# Altium footprint library Active.PcbLib: 31 footprints (part 1 of 2)
Each footprint in its own frame and in the unit in brackets; x right, y up, seen from the top. Pads: shape width x height; smd on the part's side, far side on the other; paste and mask are expansions set on the pad; w line width, h text height; cw(c..) or ccw(c..) is an arc to the next point about the centre after c.
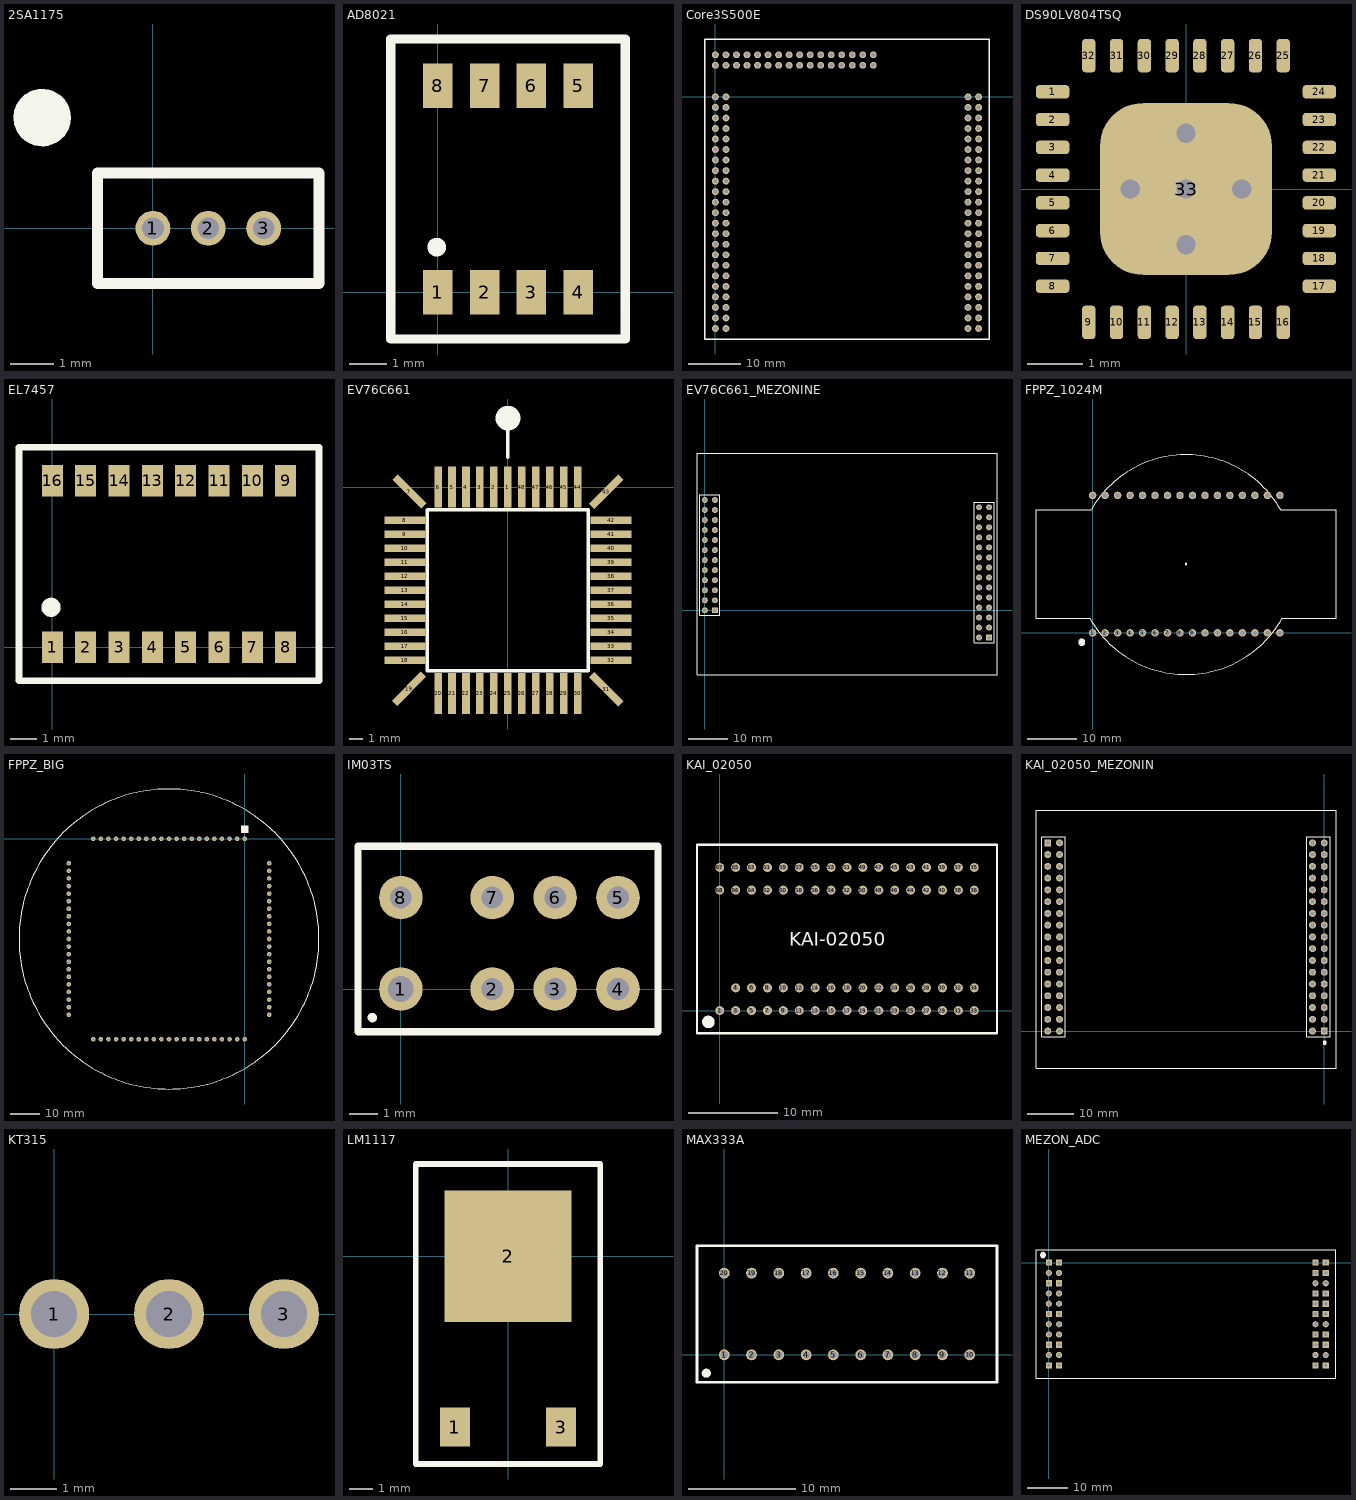
[diagram p0: the footprints below, top view; thin cyan lines are the x and y axes]

## 2SA1175 [mm]
pads (3):
  round 0.8 hole 0.5: 1(0,0) 2(1.27,0) 3(2.54,0)
Top Overlay:
  circle w0.254: c-2.54,2.54 r0.534
  circle w0.254: c-2.54,2.54 r0.31
  circle w0.254: c-2.54,2.54 r0.08
  lines w0.254: -1.27,-1.27 -1.27,1.27 3.81,1.27 3.81,-1.27 -1.27,-1.27

## AD8021 [mm]
pads (8):
  rect 0.8x1.2 smd: 1(0,0) 2(1.27,0) 3(2.54,0) 4(3.81,0) 5(3.81,5.588) 6(2.54,5.588) 7(1.27,5.588) 8(0,5.588)
Top Overlay:
  circle w0.254: c-0.025,1.219 r0.127
  lines w0.254: -1.27,-1.27 5.08,-1.27 5.08,6.858 -1.27,6.858 -1.27,-1.27

## Core3S500E [mm]
pads (124):
  round 1.3 hole 0.8: 1(0,0) 2(2,0) 3(0,-2) 4(2,-2) 5(0,-4) 6(2,-4) 7(0,-6) 8(2,-6) 9(0,-8) 10(2,-8) 11(0,-10) 12(2,-10) 13(0,-12) 14(2,-12) 15(0,-14) 16(2,-14) 17(0,-16) 18(2,-16) 19(0,-18) 20(2,-18) 21(0,-20) 22(2,-20) 23(0,-22) 24(2,-22) 25(0,-24) 26(2,-24) 27(0,-26) 28(2,-26) 29(0,-28) 30(2,-28) 31(0,-30) 32(2,-30) 33(0,-32) 34(2,-32) 35(0,-34) 36(2,-34) 37(0,-36) 38(2,-36) 39(0,-38) 40(2,-38) 41(0,-40) 42(2,-40) 43(0,-42) 44(2,-42) 45(0,-44) 46(2,-44) 47(48,0) 48(50,0) 49(48,-2) 50(50,-2) 51(48,-4) 52(50,-4) 53(48,-6) 54(50,-6) 55(48,-8) 56(50,-8) 57(48,-10) 58(50,-10) 59(48,-12) 60(50,-12) 61(48,-14) 62(50,-14) 63(48,-16) 64(50,-16) 65(48,-18) 66(50,-18) 67(48,-20) 68(50,-20) 69(48,-22) 70(50,-22) 71(48,-24) 72(50,-24) 73(48,-26) 74(50,-26) 75(48,-28) 76(50,-28) 77(48,-30) 78(50,-30) 79(48,-32) 80(50,-32) 81(48,-34) 82(50,-34) 83(48,-36) 84(50,-36) 85(48,-38) 86(50,-38) 87(48,-40) 88(50,-40) 89(48,-42) 90(50,-42) 91(48,-44) 92(50,-44) 93(30,8) 94(30,6) 95(28,8) 96(28,6) 97(26,8) 98(26,6) 99(24,8) 100(24,6) 101(22,8) 102(22,6) 103(20,8) 104(20,6) 105(18,8) 106(18,6) 107(16,8) 108(16,6) 109(14,8) 110(14,6) 111(12,8) 112(12,6) 113(10,8) 114(10,6) 115(8,8) 116(8,6) 117(6,8) 118(6,6) 119(4,8) 120(4,6) 121(2,8) 122(2,6) 123(0,8) 124(0,6)
Top Overlay:
  lines w0.254: -2,-46 52,-46 52,11 -2,11 -2,-46

## DS90LV804TSQ [mm]
pads (33):
  rrect50% 0.6x0.24 smd: 1(-2.4,1.75) 2(-2.4,1.25) 3(-2.4,0.75) 4(-2.4,0.25) 5(-2.4,-0.25) 6(-2.4,-0.75) 7(-2.4,-1.25) 8(-2.4,-1.75) 17(2.4,-1.75) 18(2.4,-1.25) 19(2.4,-0.75) 20(2.4,-0.25) 21(2.4,0.25) 22(2.4,0.75) 23(2.4,1.25) 24(2.4,1.75)
  rrect50% 0.24x0.6 smd: 9(-1.75,-2.4) 10(-1.25,-2.4) 11(-0.75,-2.4) 12(-0.25,-2.4) 13(0.25,-2.4) 14(0.75,-2.4) 15(1.25,-2.4) 16(1.75,-2.4) 25(1.75,2.4) 26(1.25,2.4) 27(0.75,2.4) 28(0.25,2.4) 29(-0.25,2.4) 30(-0.75,2.4) 31(-1.25,2.4) 32(-1.75,2.4)
  rrect50% 3.1x3.1 smd: 33(0,0)
via 0,0 diameter 0.65 hole 0.35
via 0,-1 diameter 0.65 hole 0.35
via 1,0 diameter 0.65 hole 0.35
via 0,1 diameter 0.65 hole 0.35
via -1,0 diameter 0.65 hole 0.35
Top Overlay:
  text "." at -3.875,1.65 h1.52

## EL7457 [mm]
pads (16):
  rect 0.8x1.2 smd: 1(0,0) 2(1.27,0) 3(2.54,0) 4(3.81,0) 5(5.08,0) 6(6.35,0) 7(7.62,0) 8(8.89,0) 9(8.89,6.35) 10(7.62,6.35) 11(6.35,6.35) 12(5.08,6.35) 13(3.81,6.35) 14(2.54,6.35) 15(1.27,6.35) 16(0,6.35)
Top Overlay:
  circle w0.254: c-0.051,1.524 r0.057
  circle w0.254: c-0.051,1.524 r0.24
  lines w0.254: -1.27,-1.27 10.16,-1.27 10.16,7.62 -1.27,7.62 -1.27,-1.27

## EV76C661 [mm]
height 5
pads (48):
  rect 0.55x3 smd: 1(0,0) 2(-1.016,0) 3(-2.032,0) 4(-3.048,0) 5(-4.064,0) 6(-5.08,0) 20(-5.08,-15.013) 21(-4.064,-15.013) 22(-3.048,-15.013) 23(-2.032,-15.013) 24(-1.016,-15.013) 25(0,-15.013) 26(1.016,-15.013) 27(2.032,-15.013) 28(3.048,-15.013) 29(4.064,-15.013) 30(5.08,-15.013) 44(5.08,0) 45(4.064,0) 46(3.048,0) 47(2.032,0) 48(1.016,0)
  rect 0.55x3 smd rot 45: 7(-7.163,-0.33) 31(7.163,-14.707)
  rect 3x0.55 smd: 8(-7.488,-2.434) 9(-7.488,-3.45) 10(-7.488,-4.466) 11(-7.488,-5.482) 12(-7.488,-6.498) 13(-7.488,-7.514) 14(-7.488,-8.53) 15(-7.488,-9.546) 16(-7.488,-10.562) 17(-7.488,-11.578) 18(-7.488,-12.594) 32(7.507,-12.594) 33(7.507,-11.578) 34(7.507,-10.562) 35(7.507,-9.546) 36(7.507,-8.53) 37(7.507,-7.514) 38(7.507,-6.498) 39(7.507,-5.482) 40(7.507,-4.466) 41(7.507,-3.45) 42(7.507,-2.434)
  rect 0.55x3 smd rot 135: 19(-7.188,-14.681) 43(7.163,-0.356)
Top Overlay:
  circle w1.2: c0.007,5.011 r0.3
  lines w0.254: 0,2.159 0,4.978 ; -5.85,-13.364 -5.85,-1.664 5.85,-1.664 5.85,-13.364 -5.85,-13.364

## EV76C661_MEZONINE [mm]
pads (52):
  rect 1.5x1.5 hole 0.9: 1(2.54,0) 25(72.009,-6.934)
  round 1.5 hole 0.9: 2(0,0) 3(2.54,2.54) 4(0,2.54) 5(2.54,5.08) 6(0,5.08) 7(2.54,7.62) 8(0,7.62) 9(2.54,10.16) 10(0,10.16) 11(2.54,12.7) 12(0,12.7) 13(2.54,15.24) 14(0,15.24) 15(2.54,17.78) 16(0,17.78) 17(2.54,20.32) 18(0,20.32) 19(2.54,22.86) 20(0,22.86) 21(2.54,25.4) 22(0,25.4) 23(2.54,27.94) 24(0,27.94) 26(72.009,-4.394) 27(72.009,-1.854) 28(72.009,0.686) 29(72.009,3.226) 30(72.009,5.766) 31(72.009,8.306) 32(72.009,10.846) 33(72.009,13.386) 34(72.009,15.926) 35(72.009,18.466) 36(72.009,21.006) 37(72.009,23.546) 38(72.009,26.086) 39(69.469,-6.934) 40(69.469,-4.394) 41(69.469,-1.854) 42(69.469,0.686) 43(69.469,3.226) 44(69.469,5.766) 45(69.469,8.306) 46(69.469,10.846) 47(69.469,13.386) 48(69.469,15.926) 49(69.469,18.466) 50(69.469,21.006) 51(69.469,23.546) 52(69.469,26.086)
Top Overlay:
  lines w0.2: -1.27,-1.27 3.81,-1.27 3.81,29.21 -1.27,29.21 -1.27,-1.27 ; 68.199,-8.204 73.279,-8.204 73.279,27.356 68.199,27.356 68.199,-8.204
  lines w0.254: -1.988,-16.285 -1.988,39.715 74.012,39.715 74.012,-16.285 -1.988,-16.285

## FPPZ_1024M [mil]
pads (32):
  round 60 hole 39.37: 1(0,0) 2(100,0) 3(200,0) 4(300,0) 5(400,0) 6(500,0) 7(600,0) 8(700,0) 9(800,0) 10(900,0) 11(1000,0) 12(1100,0) 13(1200,0) 14(1300,0) 15(1400,0) 16(1500,0) 17(1500,1100) 18(1400,1100) 19(1300,1100) 20(1200,1100) 21(1100,1100) 22(1000,1100) 23(900,1100) 24(800,1100) 25(700,1100) 26(600,1100) 27(500,1100) 28(400,1100) 29(300,1100) 30(200,1100) 31(100,1100) 32(0,1100)
Top Overlay:
  circle w10: c-86,-75 r25
  circle w10: c-86,-75 r15.81
  circle w10: c-86,-75 r6.71
  circle w10: c-79.29,-75 r7.71
  circle w10: c748.03,551.18 r5.03
  lines w10: -21.98,116.82 ccw(c748.03,551.18) 1518.04,116.82 ; -21.98,118.11 -452.76,118.11 -452.76,984.25 -11.1,984.25 ; -11.1,985.06 cw(c748.03,551.18) 1508.02,983.57 ; 1508.02,983.71 1948.28,983.71 1948.82,984.25 1948.82,118.11 1948.28,118.65 1518.04,118.65

## FPPZ_BIG [mil] "FPPZ_BIG"
pads (84):
  round 60 hole 30: 1(0,0) 2(-100,0) 3(-200,0) 4(-300,0) 5(-400,0) 6(-500,0) 7(-600,0) 8(-700,0) 9(-800,0) 10(-900,0) 11(-1000,0) 12(-1100,0) 13(-1200,0) 14(-1300,0) 15(-1400,0) 16(-1500,0) 17(-1600,0) 18(-1700,0) 19(-1800,0) 20(-1900,0) 21(-2000,0) 22(-2325,-325) 23(-2325,-425) 24(-2325,-525) 25(-2325,-625) 26(-2325,-725) 27(-2325,-825) 28(-2325,-925) 29(-2325,-1025) 30(-2325,-1125) 31(-2325,-1225) 32(-2325,-1325) 33(-2325,-1425) 34(-2325,-1525) 35(-2325,-1625) 36(-2325,-1725) 37(-2325,-1825) 38(-2325,-1925) 39(-2325,-2025) 40(-2325,-2125) 41(-2325,-2225) 42(-2325,-2325) 43(-2000,-2650) 44(-1900,-2650) 45(-1800,-2650) 46(-1700,-2650) 47(-1600,-2650) 48(-1500,-2650) 49(-1400,-2650) 50(-1300,-2650) 51(-1200,-2650) 52(-1100,-2650) 53(-1000,-2650) 54(-900,-2650) 55(-800,-2650) 56(-700,-2650) 57(-600,-2650) 58(-500,-2650) 59(-400,-2650) 60(-300,-2650) 61(-200,-2650) 62(-100,-2650) 63(0,-2650) 64(325,-2325) 65(325,-2225) 66(325,-2125) 67(325,-2025) 68(325,-1925) 69(325,-1825) 70(325,-1725) 71(325,-1625) 72(325,-1525) 73(325,-1425) 74(325,-1325) 75(325,-1225) 76(325,-1125) 77(325,-1025) 78(325,-925) 79(325,-825) 80(325,-725) 81(325,-625) 82(325,-525) 83(325,-425) 84(325,-325)
Top Overlay:
  circle w10: c0,125 r25
  circle w10: c-1000,-1325 r1982.74
  rectangle: -50,75 50,175

## IM03TS [mil] "IM03TS"
height 196.85
pads (8):
  round 60 hole 35.43: 1(0,0)
  round 60 hole 30: 2(125.98,0) 3(212.6,0) 4(299.21,0) 5(299.21,125.98) 6(212.6,125.98) 7(125.98,125.98) 8(0,125.98)
Top Overlay:
  circle w10: c-39.37,-39.37 r1.51
  lines w10: -59.06,-59.06 -59.06,196.85 354.33,196.85 354.33,-59.06 -59.06,-59.06

## KAI_02050 [mm]
pads (67):
  round 1 hole 0.6: 1(0,0) 3(1.778,0) 4(1.778,2.54) 5(3.556,0) 6(3.556,2.54) 7(5.334,0) 8(5.334,2.54) 9(7.112,0) 10(7.112,2.54) 11(8.89,0) 12(8.89,2.54) 13(10.668,0) 14(10.668,2.54) 15(12.446,0) 16(12.446,2.54) 17(14.224,0) 18(14.224,2.54) 19(16.002,0) 20(16.002,2.54) 21(17.78,0) 22(17.78,2.54) 23(19.558,0) 24(19.558,2.54) 25(21.336,0) 26(21.336,2.54) 27(23.114,0) 28(23.114,2.54) 29(24.892,0) 30(24.892,2.54) 31(26.67,0) 32(26.67,2.54) 33(28.448,0) 34(28.448,2.54) 35(28.448,16.002) 36(28.448,13.462) 37(26.67,16.002) 38(26.67,13.462) 39(24.892,16.002) 40(24.892,13.462) 41(23.114,16.002) 42(23.114,13.462) 43(21.336,16.002) 44(21.336,13.462) 45(19.558,16.002) 46(19.558,13.462) 47(17.78,16.002) 48(17.78,13.462) 49(16.002,16.002) 50(16.002,13.462) 51(14.224,16.002) 52(14.224,13.462) 53(12.446,16.002) 54(12.446,13.462) 55(10.668,16.002) 56(10.668,13.462) 57(8.89,16.002) 58(8.89,13.462) 59(7.112,16.002) 60(7.112,13.462) 61(5.334,16.002) 62(5.334,13.462) 63(3.556,16.002) 64(3.556,13.462) 65(1.778,16.002) 66(1.778,13.462) 67(0,16.002) 68(0,13.462)
Top Overlay:
  circle w0.8: c-1.27,-1.27 r0.3
  lines w0.254: -2.54,-2.54 30.988,-2.54 30.988,18.542 -2.54,18.542 -2.54,-2.54
  text "KAI-02050" at 7.749,7.239 h1.52

## KAI_02050_MEZONIN [mm]
pads (68):
  rect 1.5x1.5 hole 0.9: 1(0,0) 35(-59.69,40.64)
  round 1.5 hole 0.9: 2(-2.54,0) 3(0,2.54) 4(-2.54,2.54) 5(0,5.08) 6(-2.54,5.08) 7(0,7.62) 8(-2.54,7.62) 9(0,10.16) 10(-2.54,10.16) 11(0,12.7) 12(-2.54,12.7) 13(0,15.24) 14(-2.54,15.24) 15(0,17.78) 16(-2.54,17.78) 17(0,20.32) 18(-2.54,20.32) 19(0,22.86) 20(-2.54,22.86) 21(0,25.4) 22(-2.54,25.4) 23(0,27.94) 24(-2.54,27.94) 25(0,30.48) 26(-2.54,30.48) 27(0,33.02) 28(-2.54,33.02) 29(0,35.56) 30(-2.54,35.56) 31(0,38.1) 32(-2.54,38.1) 33(0,40.64) 34(-2.54,40.64) 36(-57.15,40.64) 37(-59.69,38.1) 38(-57.15,38.1) 39(-59.69,35.56) 40(-57.15,35.56) 41(-59.69,33.02) 42(-57.15,33.02) 43(-59.69,30.48) 44(-57.15,30.48) 45(-59.69,27.94) 46(-57.15,27.94) 47(-59.69,25.4) 48(-57.15,25.4) 49(-59.69,22.86) 50(-57.15,22.86) 51(-59.69,20.32) 52(-57.15,20.32) 53(-59.69,17.78) 54(-57.15,17.78) 55(-59.69,15.24) 56(-57.15,15.24) 57(-59.69,12.7) 58(-57.15,12.7) 59(-59.69,10.16) 60(-57.15,10.16) 61(-59.69,7.62) 62(-57.15,7.62) 63(-59.69,5.08) 64(-57.15,5.08) 65(-59.69,2.54) 66(-57.15,2.54) 67(-59.69,0) 68(-57.15,0)
Top Overlay:
  circle w0.254: c0.102,-2.515 r0.127
  circle w0.254: c0.102,-2.515 r0.359
  lines w0.2: -60.96,-1.27 -55.88,-1.27 ; -60.96,-1.27 -60.96,41.91 ; -60.96,-1.27 -55.88,-1.27 ; -60.96,-1.27 -60.96,41.91 ; -60.96,-1.27 -55.88,-1.27 ; -60.96,41.91 -55.88,41.91 ; -60.96,41.91 -55.88,41.91 ; -55.88,-1.27 -55.88,41.91 ; -55.88,-1.27 -55.88,41.91 ; -3.81,-1.27 1.27,-1.27 ; -3.81,-1.27 -3.81,41.91 ; -3.81,-1.27 1.27,-1.27 ; -3.81,-1.27 -3.81,41.91 ; -3.81,-1.27 -3.81,41.91 ; -3.81,-1.27 1.27,-1.27 ; -3.81,41.91 1.27,41.91 ; -3.81,41.91 1.27,41.91 ; -3.81,41.91 1.27,41.91 ; 1.27,-1.27 1.27,41.91 ; 1.27,-1.27 1.27,41.91 ; 1.27,-1.27 1.27,41.91
  lines w0.254: -62.23,-7.976 -62.23,47.727 2.54,47.727 2.54,-7.976 -62.23,-7.976

## KT315 [mil] "KT315"
height 393.7
pads (3):
  round 60 hole 39.37: 1(0,0) 2(98.43,0) 3(196.85,0)

## LM1117 [mm]
pads (3):
  rect 1.3x1.7 smd: 1(-2.3,-7.4) 3(2.3,-7.4)
  rect 5.5x5.7 smd: 2(0,0)
Top Overlay:
  lines w0.254: -4,-9 -4,4 4,4 4,-9 -4,-9

## MAX333A [mm]
pads (20):
  round 1 hole 0.7: 1(0,0) 2(2.54,0) 3(5.08,0) 4(7.62,0) 5(10.16,0) 6(12.7,0) 7(15.24,0) 8(17.78,0) 9(20.32,0) 10(22.86,0) 11(22.86,7.62) 12(20.32,7.62) 13(17.78,7.62) 14(15.24,7.62) 15(12.7,7.62) 16(10.16,7.62) 17(7.62,7.62) 18(5.08,7.62) 19(2.54,7.62) 20(0,7.62)
Top Overlay:
  circle w0.254: c-1.676,-1.702 r0.296
  circle w0.254: c-1.676,-1.702 r0.114
  lines w0.254: -2.54,-2.54 25.4,-2.54 25.4,10.16 -2.54,10.16 -2.54,-2.54

## MEZON_ADC [mm] "MEZON_ADC"
pads (44):
  rect 1.5x1.5 hole 0.9: 1(0,0) 2(2.54,0) 5(0,-5.08) 6(2.54,-5.08) 11(0,-12.7) 12(2.54,-12.7) 17(0,-20.32) 18(2.54,-20.32) 21(0,-25.4) 22(2.54,-25.4) 23(66.04,-25.4) 24(68.58,-25.4) 27(66.04,-20.32) 28(68.58,-20.32) 29(66.04,-17.78) 30(68.58,-17.78) 33(66.04,-12.7) 34(68.58,-12.7) 35(66.04,-10.16) 36(68.58,-10.16) 37(66.04,-7.62) 38(68.58,-7.62) 41(66.04,-2.54) 42(68.58,-2.54) 43(66.04,0) 44(68.58,0)
  round 1.524 hole 1: 3(0,-2.54) 4(2.54,-2.54) 7(0,-7.62) 8(2.54,-7.62) 9(0,-10.16) 10(2.54,-10.16) 13(0,-15.24) 14(2.54,-15.24) 15(0,-17.78) 16(2.54,-17.78) 19(0,-22.86) 20(2.54,-22.86) 25(66.04,-22.86) 26(68.58,-22.86) 31(66.04,-15.24) 32(68.58,-15.24) 39(66.04,-5.08) 40(68.58,-5.08)
Top Overlay:
  circle w0.254: c-1.44,1.905 r0.635
  circle w0.254: c-1.44,1.905 r0.402
  circle w0.254: c-1.44,1.905 r0.17
  circle w0.254: c-1.27,1.905 r0.196
  lines w0.254: -3.175,-28.575 71.12,-28.575 71.12,3.175 -3.175,3.175 -3.175,-28.575